# EAGLE library part IC4556 (library chuong)
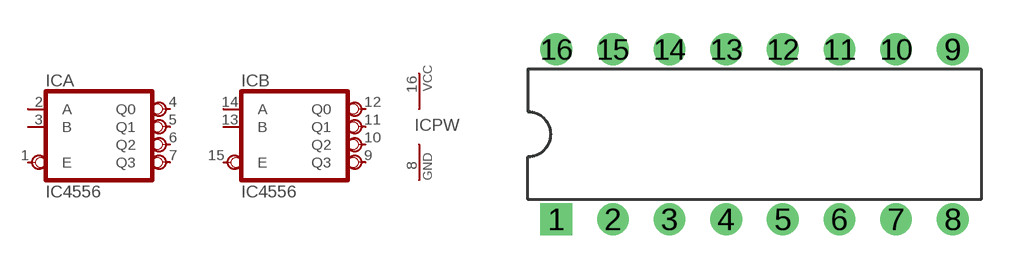
[diagram p63: symbol with the pads of DIL-16; footprint DIL-16]

Designator prefix IC; gates A=IC4556 B=IC4556 PW=POWER

## IC4556  [DIL-16]
1  A:E  in
2  A:A  in
3  A:B  in
4  A:Q0  out
5  A:Q1  out
6  A:Q2  out
7  A:Q3  out
8  PW:GND  pwr
9  B:Q3  out
10  B:Q2  out
11  B:Q1  out
12  B:Q0  out
13  B:B  in
14  B:A  in
15  B:E  in
16  PW:VCC  pwr

## Footprint DIL-16 (pad centres in mm)
drill 0.61 pad 1.422 square: 1 -8.89,-3.81
drill 0.61 pad 1.422 round: 2 -6.35,-3.81; 3 -3.81,-3.81; 4 -1.27,-3.81; 5 1.27,-3.81; 6 3.81,-3.81; 7 6.35,-3.81; 8 8.89,-3.81; 9 8.89,3.81; 10 6.35,3.81; 11 3.81,3.81; 12 1.27,3.81; 13 -1.27,3.81; 14 -3.81,3.81; 15 -6.35,3.81; 16 -8.89,3.81